# EAGLE library part INA128UA/2K5E4 (library INA128UA_2K5E4)
Precision, 130-dB CMRR, 700-A, Low-Power, Instrumentation Amplifier 8-SOIC -40 to 125 Check availability <https://pricing.snapeda.com/parts/INA128UA/2K5E4/Texas%20Instruments/view-part?ref=eda>
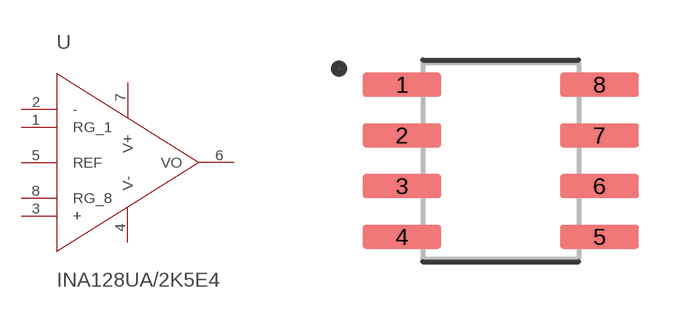
[diagram p0: symbol with the pads of SOIC127P599X175-8N; footprint SOIC127P599X175-8N]

Designator prefix U

## INA128UA/2K5E4 (AVAILABILITY: In Stock; CHECK_PRICES: https://www.snapeda.com/parts/INA128UA/2K5E4/Texas+Instruments/view-part/?ref=eda; DESCRIPTION: Precision, 130-dB CMRR, 700-A, Low-Power, Instrumentation Amplifier 8-SOIC -40 to 125; MF: Texas Instruments; MP: INA128UA/2K5E4; PACKAGE: SOIC-8 Texas Instruments; PRICE: None; PURCHASE-URL: https://www.snapeda.com/api/url_track_click_mouser/?unipart_id=111656&manufacturer=Texas Instruments&part_name=INA128UA/2K5E4&search_term=ina128; SNAPEDA_LINK: https://www.snapeda.com/parts/INA128UA/2K5E4/Texas+Instruments/view-part/?ref=snap)  [SOIC127P599X175-8N]
1  RG_1  pas
2  -  in
3  +  in
4  V-  pwr
5  REF  in
6  VO  out
7  V+  pwr
8  RG_8  pas

## Footprint SOIC127P599X175-8N (pad centres in mm)
smd 1.97 x 0.6: 1 -2.47,1.905; 2 -2.47,0.635; 3 -2.47,-0.635; 4 -2.47,-1.905; 5 2.47,-1.905; 6 2.47,-0.635; 7 2.47,0.635; 8 2.47,1.905